# Altium schematic symbol library TPS72.SchLib: 1 symbol
Pins are listed as number, name and electrical type; pins without a type are passive.

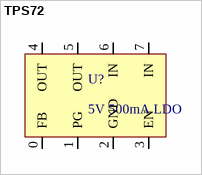
[diagram p0: symbol TPS72]

## TPS72
designator U?, comment 5V 500mA LDO
pins: 0 FB, 1 PG, 2 GND, 3 EN, 4 OUT, 5 OUT, 6 IN, 7 IN